# EAGLE library part ADS1015 (library halcyonmod_AnalogIC)
12-Bit Del-Sig ADC Four single-ended inputs or two differential inputs Internal PGA I2C interface 2.0-5.5V
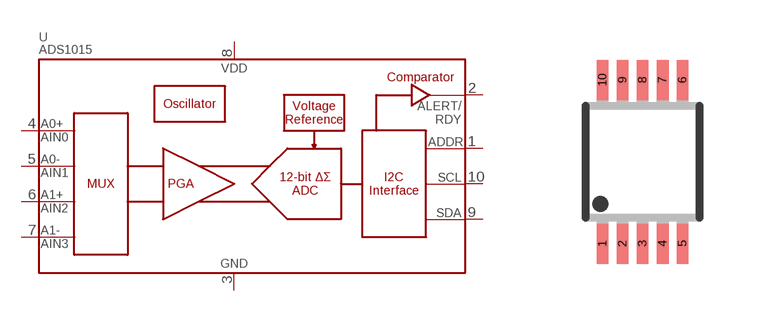
[diagram p21: symbol with the pads of MSOP10; footprint MSOP10]

Designator prefix U

## ADS1015 (PROD_ID: IC-12239; VALUE: ADS1015)  [MSOP10]
1  ADDR
2  ALERT/RDY
3  VSS
4  AIN0
5  AIN1
6  AIN2
7  AIN3
8  VDD
9  SDA
10  SCL

## Footprint MSOP10 (pad centres in mm)
10 Lead Platic MSOP Source: http://www.linear.com .. LT1996
smd 0.3 x 1: 1 -1,-2.05; 2 -0.5,-2.05; 3 0,-2.05; 4 0.5,-2.05; 5 1,-2.05; 6 1,2.05; 7 0.5,2.05; 8 0,2.05; 9 -0.5,2.05; 10 -1,2.05